# EAGLE library part ADS1115IRUGR (library ADS1115IRUGR)
Analog to Digital Converters - ADC 16B ADC w/ Int MUX PGA Comp Osc & Ref Source: Datasheet <https://www.ti.com/lit/ds/symlink/ads1115.pdf?ts=1601235703022&ref_url=https%3A%2F%2Fwww.ti.com%2Fproduct%2FADS1115%3FkeyMatch%3DADS1115IRUGR%26tisearch%3DSearch-EN-everything%26usecase%3DOPN>
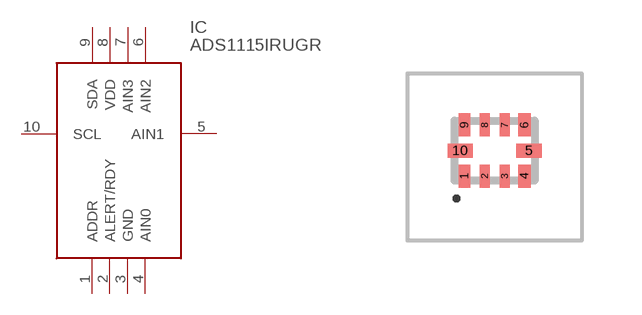
[diagram p0: symbol with the pads of ADS1115IRUGR; footprint ADS1115IRUGR]

Designator prefix IC

## ADS1115IRUGR (Arrow_Part_Number: ADS1115IRUGR; Arrow_Price-Stock: https://www.arrow.com/en/products/ads1115irugr/texas-instruments; Description: Analog to Digital Converters - ADC 16B ADC w/ Int MUX PGA Comp Osc & Ref; Height: 0.4mm; Manufacturer_Name: Texas Instruments; Manufacturer_Part_Number: ADS1115IRUGR; Mouser_Part_Number: 595-ADS1115IRUGR; Mouser_Price-Stock: https://www.mouser.co.uk/ProductDetail/Texas-Instruments/ADS1115IRUGR?qs=IK5e5L0zOXhqw%2F8AHSSbuA%3D%3D)  [ADS1115IRUGR]
1  ADDR
2  ALERT/RDY
3  GND
4  AIN0
5  AIN1
6  AIN2
7  AIN3
8  VDD
9  SDA
10  SCL

## Footprint ADS1115IRUGR (pad centres in mm)
ADS1115IRUGR-4
smd 0.3 x 0.575: 1 -0.75,-0.638; 4 0.75,-0.638; 6 0.75,0.638; 9 -0.75,0.638
smd 0.25 x 0.575: 2 -0.25,-0.638; 3 0.25,-0.638; 7 0.25,0.638; 8 -0.25,0.638
smd 0.63 x 0.35: 5 0.86,0; 10 -0.86,0